# Altium schematic symbol library Altium_Box_Header_MP4C_Mini.SchLib: 3 symbols
Pins are listed as number, name and electrical type; pins without a type are passive.

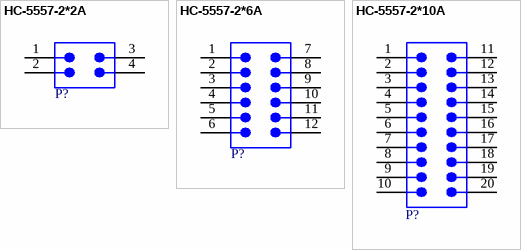
[diagram p0: symbols HC-5557-2*2A to HC-5557-2*10A]

## HC-5557-2*2A
designator P?, comment HC-5557-2*6A  (value not drawn)
2x2P 4P 2 Tin 4.2mm 4.2mm 2 -25℃~+85℃ Brass 9A Straight Plugin,P=4.2mm Wire To Board Connector ROHS; Manufacturer: HCTL; Match Code: 5569; Contact Resistance: 10mΩ; Gender: Male; Insulation Resistance: 1000MΩ; Working Voltage: 300VAC; ComponentLink1Description: Datasheet; ComponentLink1URL: https://www.lcsc.com/datasheet/lcsc_datasheet_2312171851_HCTL-HC-5557-2-2A_C2845777.pdf; Manufacturer Part Number: HC-5557-2*6A; Mount: THT; Operating Temperature Max: 105°C; Operating Temperature Min: -40°C; Packaging: Tray; Number of Pins: 20; Number of Rows: 2; Orientation: Vertical; Pitch: 4.2mm; Rated Current: 9A; Supplier 1 URL: N/A; Supplier 2 URL: N/A; Supplier 3 URL: N/A; LCSC Part #: C2845777; Package / Case: WR-MPC4; Supplier 1: Mouser; Supplier 1 Part Number: N/A; Supplier 2: Digi-Key; Supplier 2 Part Number: N/A; Supplier 3: thegioiic; Supplier 3 Part Number: N/A
footprint HC-5557-2*2A (4.20mm Male Dual Row Vertical Header, 4p)
pins: 1, 2, 3, 4

## HC-5557-2*6A
designator P?  (value not drawn)
2x6P 12P 2 Tin 4.2mm 4.2mm 6 -25℃~+85℃ Brass 9A Straight Plugin,P=4.2mm Wire To Board Connector ROHS; Manufacturer: HCTL; Match Code: 5569; Contact Resistance: 10mΩ; Gender: Male; Insulation Resistance: 1000MΩ; Working Voltage: 300VAC; ComponentLink1Description: Datasheet; ComponentLink1URL: https://www.lcsc.com/datasheet/lcsc_datasheet_2312171851_HCTL-HC-5557-2-2A_C2845777.pdf; Manufacturer Part Number: HC-5557-2*6A; Mount: THT; Operating Temperature Max: 105°C; Operating Temperature Min: -40°C; Packaging: Tray; Number of Pins: 20; Number of Rows: 2; Orientation: Vertical; Pitch: 4.2mm; Rated Current: 9A; Supplier 1 URL: N/A; Supplier 2 URL: N/A; Supplier 3 URL: N/A; LCSC Part #: C2845781; Package / Case: WR-MPC4; Supplier 1: Mouser; Supplier 1 Part Number: N/A; Supplier 2: Digi-Key; Supplier 2 Part Number: N/A; Supplier 3: thegioiic; Supplier 3 Part Number: N/A
footprint HC-5557-2*6A (4.20mm Male Dual Row Vertical Header, 20p)
pins: 1, 2, 3, 4, 5, 6, 7, 8, 9, 10, 11, 12

## HC-5557-2*10A
designator P?  (value not drawn)
2x10P 20P 2 Tin 4.2mm 4.2mm 10 -25℃~+85℃ Brass 9A Straight Plugin,P=4.2mm Wire To Board Connector ROHS; Manufacturer: HCTL; Match Code: 5569; Contact Resistance: 10mΩ; Gender: Male; Insulation Resistance: 1000MΩ; Working Voltage: 600VAC; ComponentLink1Description: Datasheet; ComponentLink1URL: https://www.lcsc.com/datasheet/lcsc_datasheet_2312171851_HCTL-HC-5557-2-2A_C2845777.pdf; Manufacturer Part Number: HC-5557-2*10A; Mount: THT; Operating Temperature Max: 105°C; Operating Temperature Min: -40°C; Packaging: Tray; Number of Pins: 20; Number of Rows: 2; Orientation: Vertical; Pitch: 4.2mm; Rated Current: 9A; Supplier 1 URL: N/A; Supplier 2 URL: N/A; Supplier 3 URL: N/A; LCSC Part #: C2845785; Package / Case: WR-MPC4; Supplier 1: Mouser; Supplier 1 Part Number: N/A; Supplier 2: Digi-Key; Supplier 2 Part Number: N/A; Supplier 3: thegioiic; Supplier 3 Part Number: N/A
footprint HC-5557-2*10A (Footprint not found)
pins: 1, 2, 3, 4, 5, 6, 7, 8, 9, 10, 11, 12, 13, 14, 15, 16, 17, 18, 19, 20